# Altium schematic symbol library Libreria-Displays.SchLib: 1 symbol
Pins are listed as number, name and electrical type; pins without a type are passive.

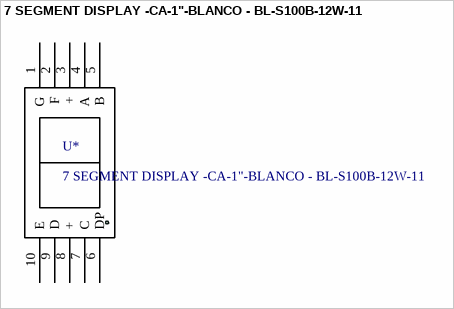
[diagram p0: symbol 7 SEGMENT DISPLAY -CA-1"-BLANCO - BL-S100B-12W-11]

## 7 SEGMENT DISPLAY -CA-1"-BLANCO - BL-S100B-12W-11
designator U*
COD. FV: CE.SEM.0004
footprint 7 SEGMENT DISPLAY 1"
pins: 1 G, 2 F, 3 +, 4 A, 5 B, 6 DP, 7 C, 8 +, 9 D, 10 E